# Altium integrated library VLS6045EX-151M.IntLib: 1 symbol
Pins are listed as number, name and electrical type; pins without a type are passive.

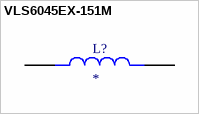
[diagram p0: symbol VLS6045EX-151M]

## VLS6045EX-151M
designator L?
Inductor Power Shielded Wirewound 150uH 20% 100KHz Ferrite 700mA 760mOhm DCR 2424 T/R; MF: TDK; MP: VLS6045EX-151M; Package: NON STANDARD-2 TDK; Price: None; Check_prices: https://www.snapeda.com/parts/VLS6045EX-151M/TDK/view-part/?ref=eda; Value: *; SnapEDA_Link: https://www.snapeda.com/parts/VLS6045EX-151M/TDK/view-part/?ref=snap; Availability: In Stock; Purchase-URL: https://pricing.snapeda.com/search/part/VLS6045EX-151M/?ref=eda
footprint IND_VLS6045EX-151M
pins: 1, 2